# Altium schematic symbol library Header-254-double-vertical-F.SchLib: 21 symbols
Pins are listed as number, name and electrical type; pins without a type are passive.

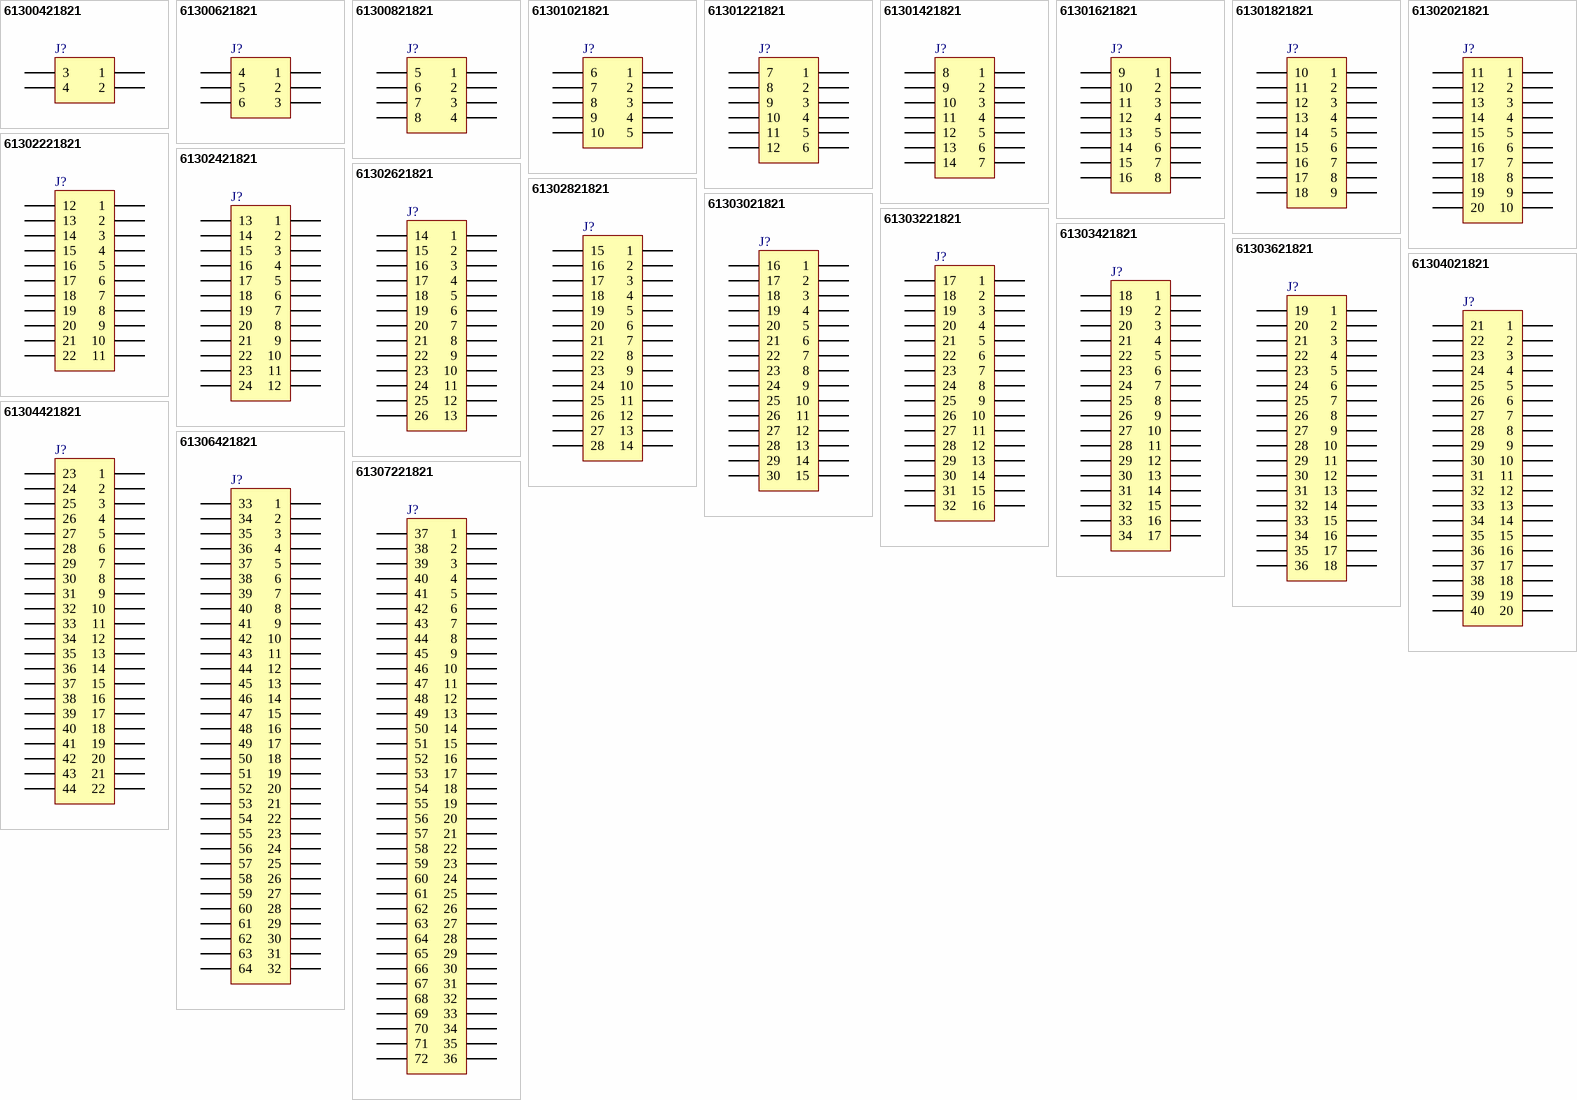
[diagram p0: symbols 61300421821 to 61307221821]

## 61300421821
designator J?, comment 04p  (value not drawn)
WR-PHD 2.54 mm Dual Socket Header, 04p; Part Number: 61300421821; Vendor: Wurth Elektronik; Value: 04p
footprint 61300421821
pins: 1, 2, 3, 4

## 61300621821
designator J?, comment 06p  (value not drawn)
WR-PHD 2.54 mm Dual Socket Header, 06p; Part Number: 61300621821; Vendor: Wurth Elektronik; Value: 06p
footprint 61300621821
pins: 1, 2, 3, 4, 5, 6

## 61300821821
designator J?, comment 08p  (value not drawn)
WR-PHD 2.54 mm Dual Socket Header, 08p; Part Number: 61300821821; Vendor: Wurth Elektronik; Value: 08p
footprint 61300821821
pins: 1, 2, 3, 4, 5, 6, 7, 8

## 61301021821
designator J?, comment 10p  (value not drawn)
WR-PHD 2.54 mm Dual Socket Header, 10p; Part Number: 61301021821; Vendor: Wurth Elektronik; Value: 10p
footprint 61301021821
pins: 1, 2, 3, 4, 5, 6, 7, 8, 9, 10

## 61301221821
designator J?, comment 12p  (value not drawn)
WR-PHD 2.54 mm Dual Socket Header, 12p; Part Number: 61301221821; Vendor: Wurth Elektronik; Value: 12p
footprint 61301221821
pins: 1, 2, 3, 4, 5, 6, 7, 8, 9, 10, 11, 12

## 61301421821
designator J?, comment 14p  (value not drawn)
WR-PHD 2.54 mm Dual Socket Header, 14p; Part Number: 61301421821; Vendor: Wurth Elektronik; Value: 14p
footprint 61301421821
pins: 1, 2, 3, 4, 5, 6, 7, 8, 9, 10, 11, 12, 13, 14

## 61301621821
designator J?, comment 16p  (value not drawn)
WR-PHD 2.54 mm Dual Socket Header, 16p; Part Number: 61301621821; Vendor: Wurth Elektronik; Value: 16p
footprint 61301621821
pins: 1, 2, 3, 4, 5, 6, 7, 8, 9, 10, 11, 12, 13, 14, 15, 16

## 61301821821
designator J?, comment 18p  (value not drawn)
WR-PHD 2.54 mm Dual Socket Header, 18p; Part Number: 61301821821; Vendor: Wurth Elektronik; Value: 18p
footprint 61301821821
pins: 1, 2, 3, 4, 5, 6, 7, 8, 9, 10, 11, 12, 13, 14, 15, 16, 17, 18

## 61302021821
designator J?, comment 20p  (value not drawn)
WR-PHD 2.54 mm Dual Socket Header, 20p; Part Number: 61302021821; Vendor: Wurth Elektronik; Value: 20p
footprint 61302021821
pins: 1, 2, 3, 4, 5, 6, 7, 8, 9, 10, 11, 12, 13, 14, 15, 16, 17, 18, 19, 20

## 61302221821
designator J?, comment 22p  (value not drawn)
WR-PHD 2.54 mm Dual Socket Header, 22p; Part Number: 61302221821; Vendor: Wurth Elektronik; Value: 22p
footprint 61302221821
pins: 1, 2, 3, 4, 5, 6, 7, 8, 9, 10, 11, 12, 13, 14, 15, 16, 17, 18, 19, 20, 21, 22

## 61302421821
designator J?, comment 24p  (value not drawn)
WR-PHD 2.54 mm Dual Socket Header, 24p; Part Number: 61302421821; Vendor: Wurth Elektronik; Value: 24p
footprint 61302421821
pins: 1, 2, 3, 4, 5, 6, 7, 8, 9, 10, 11, 12, 13, 14, 15, 16, 17, 18, 19, 20, 21, 22, 23, 24

## 61302621821
designator J?, comment 26p  (value not drawn)
WR-PHD 2.54 mm Dual Socket Header, 26p; Part Number: 61302621821; Vendor: Wurth Elektronik; Value: 26p
footprint 61302621821
pins: 1, 2, 3, 4, 5, 6, 7, 8, 9, 10, 11, 12, 13, 14, 15, 16, 17, 18, 19, 20, 21, 22, 23, 24, 25, 26

## 61302821821
designator J?, comment 28p  (value not drawn)
WR-PHD 2.54 mm Dual Socket Header, 28p; Part Number: 61302821821; Vendor: Wurth Elektronik; Value: 28p
footprint 61302821821
pins: 1, 2, 3, 4, 5, 6, 7, 8, 9, 10, 11, 12, 13, 14, 15, 16, 17, 18, 19, 20, 21, 22, 23, 24, 25, 26, 27, 28

## 61303021821
designator J?, comment 30p  (value not drawn)
WR-PHD 2.54 mm Dual Socket Header, 30p; Part Number: 61303021821; Vendor: Wurth Elektronik; Value: 30p
footprint 61303021821
pins: 1, 2, 3, 4, 5, 6, 7, 8, 9, 10, 11, 12, 13, 14, 15, 16, 17, 18, 19, 20, 21, 22, 23, 24, 25, 26, 27, 28, 29, 30

## 61303221821
designator J?, comment 32p  (value not drawn)
WR-PHD 2.54 mm Dual Socket Header, 32p; Part Number: 61303221821; Vendor: Wurth Elektronik; Value: 32p
footprint 61303221821
pins: 1, 2, 3, 4, 5, 6, 7, 8, 9, 10, 11, 12, 13, 14, 15, 16, 17, 18, 19, 20, 21, 22, 23, 24, 25, 26, 27, 28, 29, 30, 31, 32

## 61303421821
designator J?, comment 34p  (value not drawn)
WR-PHD 2.54 mm Dual Socket Header, 34p; Part Number: 61303421821; Vendor: Wurth Elektronik; Value: 34p
footprint 61303421821
pins: 1, 2, 3, 4, 5, 6, 7, 8, 9, 10, 11, 12, 13, 14, 15, 16, 17, 18, 19, 20, 21, 22, 23, 24, 25, 26, 27, 28, 29, 30, 31, 32, 33, 34

## 61303621821
designator J?, comment 36p  (value not drawn)
WR-PHD 2.54 mm Dual Socket Header, 36p; Part Number: 61303621821; Vendor: Wurth Elektronik; Value: 36p
footprint 61303621821
pins: 1, 2, 3, 4, 5, 6, 7, 8, 9, 10, 11, 12, 13, 14, 15, 16, 17, 18, 19, 20, 21, 22, 23, 24, 25, 26, 27, 28, 29, 30, 31, 32, 33, 34, 35, 36

## 61304021821
designator J?, comment 40p  (value not drawn)
WR-PHD 2.54 mm Dual Socket Header, 40p; Part Number: 61304021821; Vendor: Wurth Elektronik; Value: 40p
footprint 61304021821
pins: 1, 2, 3, 4, 5, 6, 7, 8, 9, 10, 11, 12, 13, 14, 15, 16, 17, 18, 19, 20, 21, 22, 23, 24, 25, 26, 27, 28, 29, 30, 31, 32, 33, 34, 35, 36, 37, 38, 39, 40

## 61304421821
designator J?, comment 44p  (value not drawn)
WR-PHD 2.54 mm Dual Socket Header, 44p; Part Number: 61304421821; Vendor: Wurth Elektronik; Value: 44p
footprint 61304421821
pins: 1, 2, 3, 4, 5, 6, 7, 8, 9, 10, 11, 12, 13, 14, 15, 16, 17, 18, 19, 20, 21, 22, 23, 24, 25, 26, 27, 28, 29, 30, 31, 32, 33, 34, 35, 36, 37, 38, 39, 40, 41, 42, 43, 44

## 61306421821
designator J?, comment 64p  (value not drawn)
WR-PHD 2.54 mm Dual Socket Header, 64p; Part Number: 61306421821; Vendor: Wurth Elektronik; Value: 64p
footprint 61306421821
pins: 1, 2, 3, 4, 5, 6, 7, 8, 9, 10, 11, 12, 13, 14, 15, 16, 17, 18, 19, 20, 21, 22, 23, 24, 25, 26, 27, 28, 29, 30, 31, 32, 33, 34, 35, 36, 37, 38, 39, 40, 41, 42, 43, 44, 45, 46, 47, 48, 49, 50, 51, 52, 53, 54, 55, 56, 57, 58, 59, 60, 61, 62, 63, 64

## 61307221821
designator J?, comment 72p  (value not drawn)
WR-PHD 2.54 mm Dual Socket Header, 72p; Part Number: 61307221821; Vendor: Wurth Elektronik; Value: 72p
footprint 61307221821
pins: 1, 2, 3, 4, 5, 6, 7, 8, 9, 10, 11, 12, 13, 14, 15, 16, 17, 18, 19, 20, 21, 22, 23, 24, 25, 26, 27, 28, 29, 30, 31, 32, 33, 34, 35, 36, 37, 38, 39, 40, 41, 42, 43, 44, 45, 46, 47, 48, 49, 50, 51, 52, 53, 54, 55, 56, 57, 58, 59, 60, 61, 62, 63, 64, 65, 66, 67, 68, 69, 70, 71, 72